# Altium footprint library relay.PCBLIB: 291 footprints (part 9 of 19)
Each footprint in its own frame and in the unit in brackets; x right, y up, seen from the top. Pads: shape width x height; smd on the part's side, far side on the other; paste and mask are expansions set on the pad; w line width, h text height; cw(c..) or ccw(c..) is an arc to the next point about the centre after c.
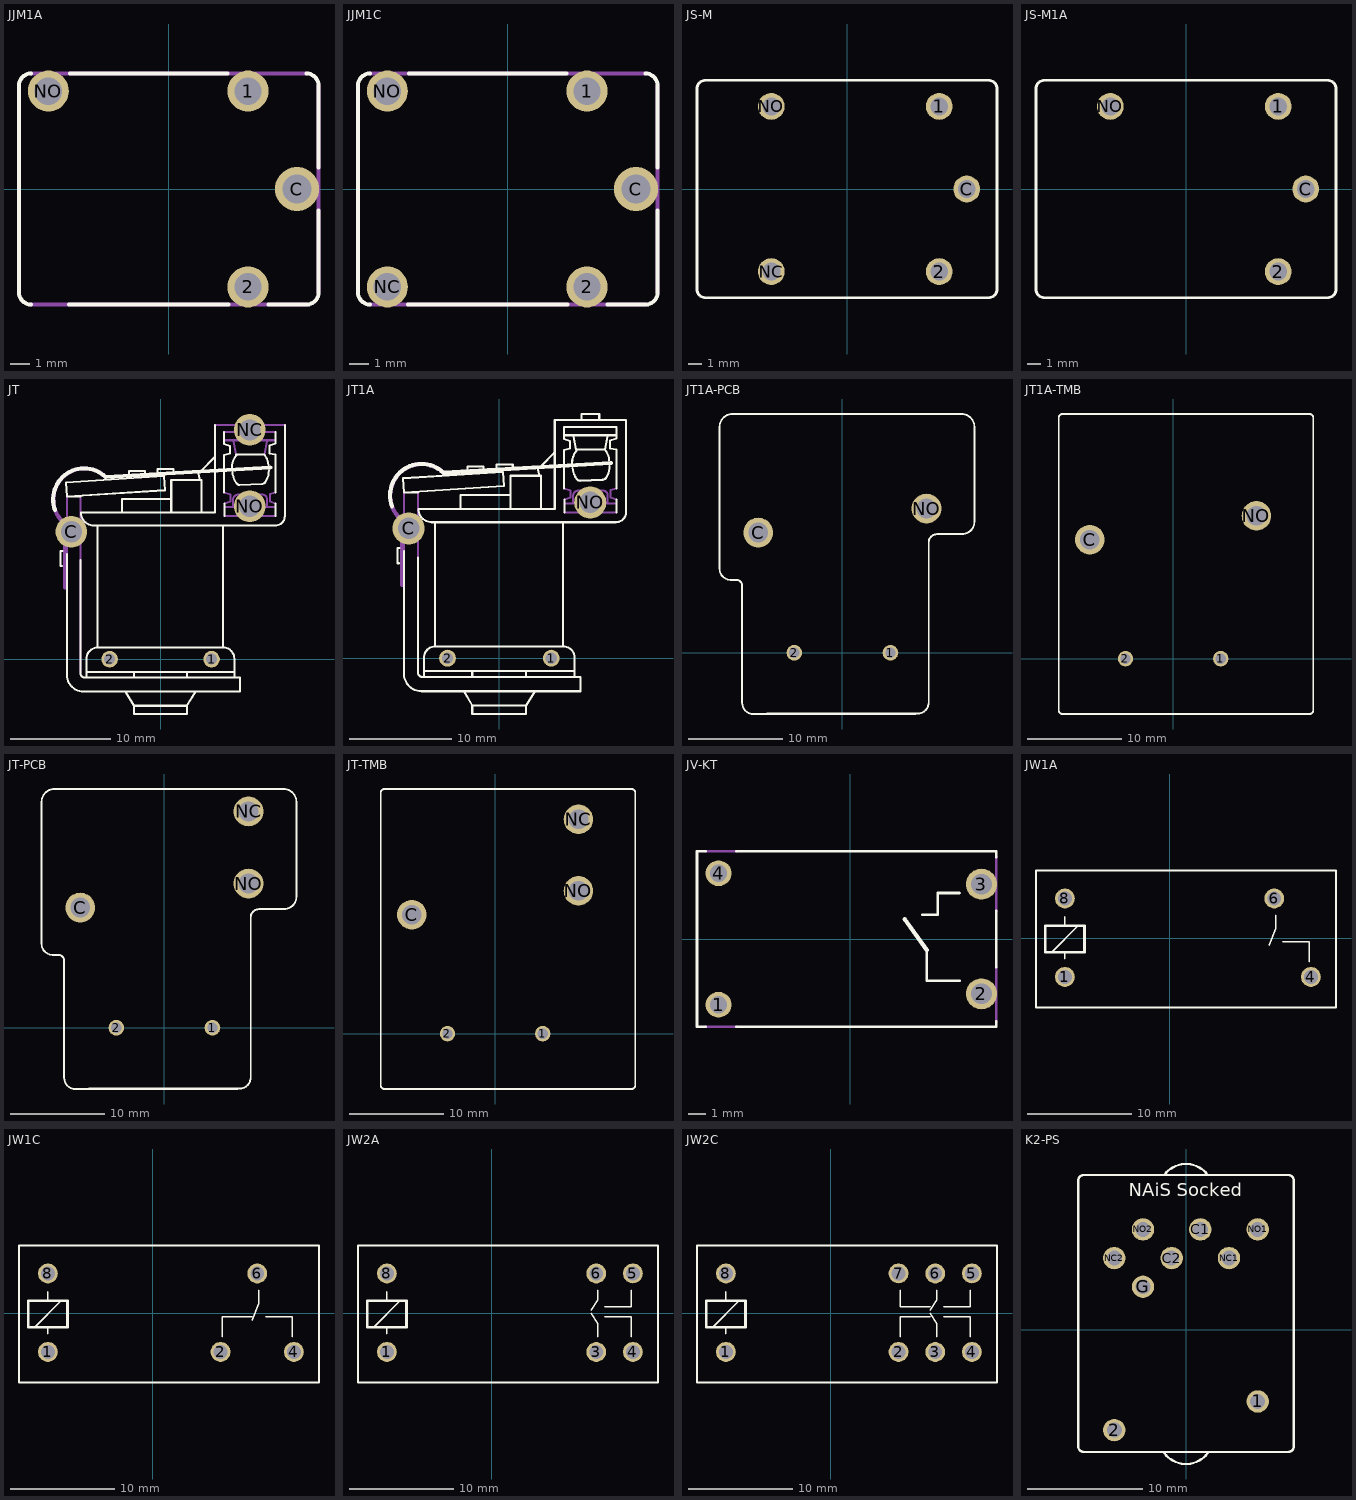
[diagram p8: the footprints below, top view; thin cyan lines are the x and y axes]

## JJM1A [mm]
pads (4):
  round 2.1 hole 1.4: 1(4.05,5) 2(4.05,-5) NO(-6.15,5)
  round 2.25 hole 1.5: C(6.55,0)
Top Overlay:
  lines w0.203: -7.04,-5.9 cw(c-7.04,-5.29) -7.65,-5.29 -7.65,5.29 cw(c-7.04,5.29) -7.04,5.9 ; -5.1,-5.9 3.05,-5.9 ; -5.05,5.9 2.95,5.9 ; -5,5.9 2.95,5.9 ; 3,5.9 2.95,5.9 ; 5.1,-5.9 7.05,-5.9 ; 7.04,-5.9 ccw(c7.045,-5.287) 7.05,-5.9 ; 7.04,5.9 cw(c7.04,5.29) 7.65,5.29 ; 7.65,-5.29 cw(c7.04,-5.29) 7.05,-5.9 ; 7.65,-5.25 7.65,-1.1 ; 7.65,1.1 7.65,5.25
Mechanical 16:
  lines w0.203: -7.04,-5.9 7.04,-5.9 ; -7.04,5.9 7.04,5.9 ; 7.65,-5.29 7.65,5.29

## JJM1C [mm]
pads (5):
  round 2.1 hole 1.4: 1(4.05,5) 2(4.05,-5) NC(-6.15,-5) NO(-6.15,5)
  round 2.25 hole 1.5: C(6.55,0)
Top Overlay:
  lines w0.203: -7.04,-5.9 cw(c-7.04,-5.29) -7.65,-5.29 -7.65,5.29 cw(c-7.04,5.29) -7.04,5.9 ; -5.1,-5.9 3.05,-5.9 ; -5.05,5.9 2.95,5.9 ; -5,5.9 2.95,5.9 ; 3,5.9 2.95,5.9 ; 5.1,-5.9 7.05,-5.9 ; 7.04,-5.9 ccw(c7.045,-5.287) 7.05,-5.9 ; 7.04,5.9 cw(c7.04,5.29) 7.65,5.29 ; 7.65,-5.29 cw(c7.04,-5.29) 7.05,-5.9 ; 7.65,-5.25 7.65,-1.1 ; 7.65,1.1 7.65,5.25
Mechanical 16:
  lines w0.203: -7.04,-5.9 7.04,-5.9 ; -7.04,5.9 7.04,5.9 ; 7.65,-5.29 7.65,5.29

## JS-M [mm]
pads (5):
  round 1.95 hole 1.3: 1(6.7,6) 2(6.7,-6) C(8.7,0) NC(-5.5,-6) NO(-5.5,6)
Top Overlay:
  lines w0.203: -10.9,-7.29 ccw(c-10.29,-7.29) -10.29,-7.9 10.29,-7.9 ccw(c10.29,-7.29) 10.9,-7.29 10.9,7.29 ccw(c10.29,7.29) 10.29,7.9 -10.29,7.9 ccw(c-10.29,7.29) -10.9,7.29 -10.9,-7.29

## JS-M1A [mm]
pads (4):
  round 1.95 hole 1.3: 1(6.7,6) 2(6.7,-6) C(8.7,0) NO(-5.5,6)
Top Overlay:
  lines w0.203: -10.9,-7.29 ccw(c-10.29,-7.29) -10.29,-7.9 10.29,-7.9 ccw(c10.29,-7.29) 10.9,-7.29 10.9,7.29 ccw(c10.29,7.29) 10.29,7.9 -10.29,7.9 ccw(c-10.29,7.29) -10.9,7.29 -10.9,-7.29

## JT [mil]
pads (5):
  round 64.97 hole 43.31: 1(200,0) 2(-200,0)
  round 124.02 hole 82.68: C(-350,500) NC(350,900) NO(350,600)
Top Overlay:
  lines w8: -386.66,365.71 -392.37,365.71 -392.37,424.75 -384.76,424.75 ; -367.61,413.08 -367.61,-60.95 ccw(c-300.94,-60.95) -300.94,-127.62 -133.33,-127.62 ; -314.28,388.08 -314.28,-55.24 ccw(c-297.14,-55.24) -297.14,-72.38 -291.42,-72.38 ; -314.28,638.08 -365.71,638.08 ; -312.37,575.23 ccw(c-260.94,575.23) -260.94,523.8 -247.61,523.8 ; -310.47,575.23 41.91,575.23 ; -285.71,-49.52 285.71,-49.52 ; -247.61,47.62 -247.61,523.8 ; -150.47,577.13 -150.47,628.56 41.91,628.56 ; -123.81,721.89 -123.81,739.03 -60.95,739.03 -60.95,727.61 ; -104.76,-68.57 -104.76,-53.33 ; -11.43,731.41 -11.43,746.65 51.43,746.65 51.43,735.22 ; 102.85,-68.57 102.85,-53.33 ; 148.57,727.61 152.38,708.56 ; 160,577.13 160,702.84 41.91,702.84 41.91,575.23 ; 160,739.03 211.43,792.37 ; 213.33,918.08 213.33,575.23 41.91,575.23 ; 245.71,51.43 245.71,523.8 ; 249.52,653.32 249.52,801.89 272.37,807.6 272.37,836.17 249.52,843.79 249.52,891.41 ; 251.43,561.89 251.43,611.42 ; 280,752.37 cw(c358.62,750.96) 297.14,799.98 ; 281.9,733.32 ccw(c366.37,740.31) 297.14,691.41 ccw(c310.15,698.71) 310.47,683.8 398.09,687.61 ccw(c397.37,704.35) 411.42,695.22 ccw(c342.01,740.26) 424.75,740.94 ; 289.52,-68.57 289.52,1.9 ccw(c245.71,1.9) 245.71,45.71 -245.71,45.71 ccw(c-245.71,0) -291.42,0 -291.42,-72.38 ; 295.23,803.8 407.61,803.8 ; 407.61,801.89 cw(c351,757.42) 422.85,761.89 ; 451.42,561.89 451.42,611.42 ; 451.42,653.32 451.42,803.8 426.66,807.6 426.66,838.08 451.42,845.7 451.42,891.41 ; 487.61,918.08 487.61,561.89 cw(c449.52,561.89) 449.52,523.8 245.71,523.8 ; -365.71,638.08 -367.61,638.08 -371.42,693.32 13.33,718.08 17.14,662.84 -365.71,638.08 ; -291.42,-72.38 312.37,-72.38 312.37,-127.62 137.14,-127.62 ; -247.61,523.8 245.71,523.8 ; -133.33,-127.62 137.14,-127.62 ; -133.33,-127.62 -137.14,-127.62 -104.76,-182.85 ; -104.76,-182.85 102.85,-182.85 ; -104.76,-182.85 -104.76,-215.23 102.85,-215.23 102.85,-182.85 ; 102.85,-182.85 137.14,-127.62
  lines w16: -414.03,585.22 cw(c-300.04,627.13) -215.94,714.74 ; -215.23,714.27 430.47,752.37
Mechanical 16:
  circle w8: c-201.9,0 r20.95
  circle w8: c200,0 r21.04
  lines w8: -367.61,-60.95 -367.61,638.08 ; -314.28,-55.24 -314.28,638.08 ; 213.33,918.08 487.61,918.08 ; 249.52,653.32 274.28,645.7 274.28,619.04 251.43,611.42 ; 249.52,891.41 451.42,891.41 ; 251.43,561.89 451.42,561.89 ; 255.23,596.18 445.7,596.18 ; 255.23,859.03 445.7,859.03 ; 283.8,599.99 283.8,624.75 cw(c304.75,624.75) 304.76,645.7 399.99,645.7 cw(c399.99,628.56) 417.13,628.56 417.13,599.99 ; 285.71,855.22 295.23,803.8 ; 316.19,919.98 316.19,940.93 384.76,940.93 384.76,921.89 ; 407.61,803.8 417.13,855.22 ; 451.42,611.42 428.56,619.04 428.56,647.61 451.42,653.32
  lines w16: -375.23,281.9 -375.23,531.42 cw(c-299.52,626.6) -215.23,714.27

## JT1A [mil]
pads (4):
  round 64.97 hole 43.31: 1(200,0) 2(-200,0)
  round 124.02 hole 82.68: C(-350,500) NO(350,600)
Top Overlay:
  lines w8: -386.66,365.71 -392.37,365.71 -392.37,424.75 -384.76,424.75 ; -367.61,413.08 -367.61,-60.95 ccw(c-300.94,-60.95) -300.94,-127.62 -133.33,-127.62 ; -314.28,388.08 -314.28,-55.24 ccw(c-297.14,-55.24) -297.14,-72.38 -291.42,-72.38 ; -314.28,638.08 -365.71,638.08 ; -312.37,575.23 ccw(c-260.94,575.23) -260.94,523.8 -247.61,523.8 ; -310.47,575.23 41.91,575.23 ; -285.71,-49.52 285.71,-49.52 ; -247.61,47.62 -247.61,523.8 ; -150.47,577.13 -150.47,628.56 41.91,628.56 ; -123.81,721.89 -123.81,739.03 -60.95,739.03 -60.95,727.61 ; -104.76,-68.57 -104.76,-53.33 ; -11.43,731.41 -11.43,746.65 51.43,746.65 51.43,735.22 ; 102.85,-68.57 102.85,-53.33 ; 148.57,727.61 152.38,708.56 ; 160,577.13 160,702.84 41.91,702.84 41.91,575.23 ; 160,739.03 211.43,792.37 ; 245.71,51.43 245.71,523.8 ; 249.52,653.32 249.52,801.89 272.37,807.6 272.37,836.17 249.52,843.79 249.52,891.41 451.42,891.41 451.42,845.7 426.66,838.08 426.66,807.6 451.42,803.8 451.42,653.32 ; 251.43,561.89 251.43,611.42 ; 255.23,859.03 445.7,859.03 ; 280,752.37 cw(c358.62,750.96) 297.14,799.98 ; 281.9,733.32 ccw(c366.37,740.31) 297.14,691.41 ccw(c310.15,698.71) 310.47,683.8 398.09,687.61 ccw(c397.37,704.35) 411.42,695.22 ccw(c342.01,740.26) 424.75,740.94 ; 285.71,855.22 295.23,803.8 407.61,803.8 417.13,855.22 ; 289.52,-68.57 289.52,1.9 ccw(c245.71,1.9) 245.71,45.71 -245.71,45.71 ccw(c-245.71,0) -291.42,0 -291.42,-72.38 ; 316.19,919.98 316.19,940.93 384.76,940.93 384.76,921.89 ; 407.61,801.89 cw(c351,757.42) 422.85,761.89 ; 451.42,561.89 451.42,611.42 ; -365.71,638.08 -367.61,638.08 -371.42,693.32 13.33,718.08 17.14,662.84 -365.71,638.08 ; -291.42,-72.38 312.37,-72.38 312.37,-127.62 137.14,-127.62 ; -247.61,523.8 245.71,523.8 ; -133.33,-127.62 137.14,-127.62 ; -133.33,-127.62 -137.14,-127.62 -104.76,-182.85 ; -104.76,-182.85 102.85,-182.85 ; -104.76,-182.85 -104.76,-215.23 102.85,-215.23 102.85,-182.85 ; 41.91,575.23 213.33,575.23 213.33,918.08 487.61,918.08 487.61,561.89 cw(c449.52,561.89) 449.52,523.8 245.71,523.8 ; 102.85,-182.85 137.14,-127.62
  lines w16: -414.03,585.22 cw(c-300.04,627.13) -215.94,714.74 ; -215.23,714.27 430.47,752.37
Mechanical 16:
  circle w8: c-201.9,0 r20.95
  circle w8: c200,0 r21.04
  lines w8: -367.61,-60.95 -367.61,638.08 ; -314.28,-55.24 -314.28,638.08 ; 249.52,653.32 274.28,645.7 274.28,619.04 251.43,611.42 ; 251.43,561.89 451.42,561.89 ; 255.23,596.18 445.7,596.18 ; 283.8,599.99 283.8,624.75 cw(c304.75,624.75) 304.76,645.7 399.99,645.7 cw(c399.99,628.56) 417.13,628.56 417.13,599.99 ; 451.42,611.42 428.56,619.04 428.56,647.61 451.42,653.32
  lines w16: -375.23,281.9 -375.23,531.42 cw(c-299.52,626.6) -215.23,714.27

## JT1A-PCB [mil]
pads (4):
  round 64.97 hole 43.31: 1(200,0) 2(-200,0)
  round 124.02 hole 82.68: C(-350,500) NO(350,600)
Top Overlay:
  lines w8: -314.83,-252.66 313.17,-252.66 ccw(c313.17,-206.66) 359.17,-206.66 359.17,459.34 cw(c393.17,459.34) 393.17,493.34 497.17,493.34 ccw(c497.17,545.34) 549.17,545.34 549.17,939.34 ccw(c495.17,939.34) 495.17,993.34 -456.83,993.34 ccw(c-456.83,939.34) -510.83,939.34 -510.83,349.34 ccw(c-464.83,349.34) -464.83,303.34 -440.83,303.34 cw(c-440.83,279.34) -416.83,279.34 -416.83,-208.66 ccw(c-370.83,-208.66) -370.83,-254.66 305.17,-254.66 ; 307.17,615.34 308.17,615.34

## JT1A-TMB [mil]
pads (4):
  round 64.97 hole 43.31: 1(200,0) 2(-200,0)
  round 124.02 hole 82.68: C(-350,500) NO(350,600)
Top Overlay:
  lines w8: -480.32,-216.28 ccw(c-464.32,-216.28) -464.32,-232.28 572.58,-232.28 ccw(c572.58,-216.28) 588.58,-216.28 588.58,1011.56 ccw(c572.58,1011.56) 572.58,1027.56 -464.32,1027.56 ccw(c-464.32,1011.56) -480.32,1011.56 -480.32,-216.28

## JT-PCB [mil]
pads (5):
  round 64.97 hole 43.31: 1(200,0) 2(-200,0)
  round 124.02 hole 82.68: C(-350,500) NC(350,900) NO(350,600)
Top Overlay:
  lines w8: -314.83,-252.66 313.17,-252.66 ccw(c313.17,-206.66) 359.17,-206.66 359.17,459.34 cw(c393.17,459.34) 393.17,493.34 497.17,493.34 ccw(c497.17,545.34) 549.17,545.34 549.17,939.34 ccw(c495.17,939.34) 495.17,993.34 -456.83,993.34 ccw(c-456.83,939.34) -510.83,939.34 -510.83,349.34 ccw(c-464.83,349.34) -464.83,303.34 -440.83,303.34 cw(c-440.83,279.34) -416.83,279.34 -416.83,-208.66 ccw(c-370.83,-208.66) -370.83,-254.66 305.17,-254.66 ; 307.17,615.34 308.17,615.34

## JT-TMB [mil]
pads (5):
  round 64.97 hole 43.31: 1(200,0) 2(-200,0)
  round 124.02 hole 82.68: C(-350,500) NC(350,900) NO(350,600)
Top Overlay:
  lines w8: -480.32,-216.28 ccw(c-464.32,-216.28) -464.32,-232.28 572.58,-232.28 ccw(c572.58,-216.28) 588.58,-216.28 588.58,1011.56 ccw(c572.58,1011.56) 572.58,1027.56 -464.32,1027.56 ccw(c-464.32,1011.56) -480.32,1011.56 -480.32,-216.28

## JV-KT [mm]
pads (4):
  round 1.5 hole 1: 1(-7.62,-3.81) 4(-7.62,3.81)
  round 1.8 hole 1.2: 2(7.62,-3.175) 3(7.62,3.175)
Top Overlay:
  lines w0.152: -8.361,-5.08 -8.869,-5.08 -8.869,5.08 -8.361,5.08 ; -6.604,-5.08 8.469,-5.08 8.469,-4.78 ; -6.604,5.08 8.469,5.08 8.469,4.755 ; 4.191,1.397 5.08,1.397 5.08,2.669 ; 4.441,-2.413 6.35,-2.413 ; 4.445,-2.419 4.445,-0.635 ; 5.076,2.667 6.35,2.667 ; 8.469,-1.645 8.469,1.62
  lines w0.254: 3.175,1.143 4.445,-0.635
Mechanical 16:
  lines w0.152: -8.361,-5.08 -6.604,-5.08 ; -8.361,5.08 -6.604,5.08 ; 8.469,-4.796 8.469,-1.629 ; 8.469,1.604 8.469,4.771

## JW1A [mil]
pads (4):
  round 74.8 hole 52: 1(-393.7,-145) 4(531.5,-145) 6(393.7,150) 8(-393.7,150)
Top Overlay:
  lines w6: -442.7,-52 -344.7,47 ; -393.7,-76 -393.7,-52 ; -393.7,47 -393.7,81 ; 375,-25 400,37.5 400,87.5 ; 425,-12.5 525,-12.5 525,-87.5 ; -502.32,-260 625.98,-260 625.98,255 -502.32,255 -502.32,-260
  lines w10: -467.7,-52 -467.7,47 -393.7,47 -344.7,47 -319.7,47 -319.7,-52 -393.7,-52 -442.7,-52 -467.7,-52

## JW1C [mil]
pads (5):
  round 74.8 hole 52: 1(-393.7,-145) 2(255.91,-145) 4(531.5,-145) 6(393.7,150) 8(-393.7,150)
Top Overlay:
  lines w6: -442.7,-52 -344.7,47 ; -393.7,-76 -393.7,-52 ; -393.7,47 -393.7,81 ; 262.5,-87.5 262.5,-12.5 375,-12.5 ; 375,-25 400,37.5 400,87.5 ; 425,-12.5 525,-12.5 525,-87.5 ; -502.32,-260 625.98,-260 625.98,255 -502.32,255 -502.32,-260
  lines w10: -467.7,-52 -467.7,47 -393.7,47 -344.7,47 -319.7,47 -319.7,-52 -393.7,-52 -442.7,-52 -467.7,-52

## JW2A [mil]
pads (6):
  round 74.8 hole 52: 1(-393.7,-145) 3(393.7,-145.28) 4(531.5,-145) 5(531.5,150.28) 6(393.7,150) 8(-393.7,150)
Top Overlay:
  lines w6: -442.7,-52 -344.7,47 ; -393.7,-76 -393.7,-52 ; -393.7,47 -393.7,81 ; 375,0 400,-37.5 400,-87.5 ; 375,12.5 400,50 400,87.5 ; 425,-12.5 525,-12.5 525,-87.5 ; 425,25 525,25 525,87.5 ; -502.32,-260 625.98,-260 625.98,255 -502.32,255 -502.32,-260
  lines w10: -467.7,-52 -467.7,47 -393.7,47 -344.7,47 -319.7,47 -319.7,-52 -393.7,-52 -442.7,-52 -467.7,-52

## JW2C [mil]
pads (8):
  round 74.8 hole 52: 1(-393.7,-145) 2(255.91,-145) 3(393.7,-145.28) 4(531.5,-145) 5(531.5,150.28) 6(393.7,150) 7(255.91,150.28) 8(-393.7,150)
Top Overlay:
  lines w6: -442.7,-52 -344.7,47 ; -393.7,-76 -393.7,-52 ; -393.7,47 -393.7,81 ; 262.5,-87.5 262.5,-12.5 375,-12.5 ; 262.5,87.5 262.5,25 375,25 ; 375,0 400,-37.5 400,-87.5 ; 375,12.5 400,50 400,87.5 ; 425,-12.5 525,-12.5 525,-87.5 ; 425,25 525,25 525,87.5 ; -502.32,-260 625.98,-260 625.98,255 -502.32,255 -502.32,-260
  lines w10: -467.7,-52 -467.7,47 -393.7,47 -344.7,47 -319.7,47 -319.7,-52 -393.7,-52 -442.7,-52 -467.7,-52

## K2-PS [mil]
pads (9):
  round 76.77 hole 51.18: 1(246.06,-246.06) 2(-246.06,-344.49) C1(49.21,344.49) C2(-49.21,246.06) G(-147.64,147.64) NC1(147.64,246.06) NC2(-246.06,246.06) NO1(246.06,344.49) NO2(-147.64,344.49)
Top Overlay:
  lines w8: -74.8,-423.23 ccw(c0,-367.34) 74.8,-423.23 ; -74.8,531.5 -350.39,531.5 ccw(c-350.39,511.81) -370.08,511.81 -370.08,-399.61 ccw(c-350.39,-399.61) -350.39,-419.29 350.39,-419.29 ccw(c350.39,-399.61) 370.08,-399.61 370.08,511.81 ccw(c350.39,511.81) 350.39,531.5 74.8,531.5 ; -74.8,531.5 74.8,531.5 ; -74.8,531.5 cw(c0,475.61) 74.8,531.5
  text "NAiS Socked" at -196.85,442.91 h77.5